# Altium schematic symbol library 62502023021.SchLib: 1 symbol
Pins are listed as number, name and electrical type; pins without a type are passive.

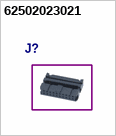
[diagram p0: symbol 62502023021]

## 62502023021
designator J?  (value not drawn)  (mechanical)